# EAGLE library part ADS1220 (library LinnesLab-DigitalIC)
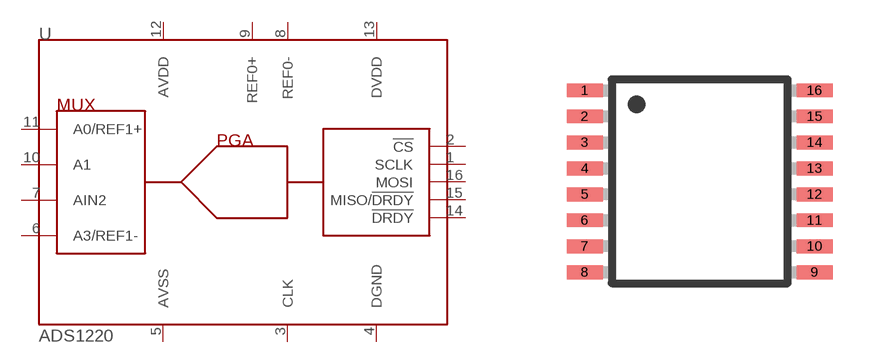
[diagram p13: symbol with the pads of TSSOP16; footprint TSSOP16]

Designator prefix U

## ADS1220  [TSSOP16]
1  SCLK
2  !CS
3  CLK
4  DGND  pwr
5  AVSS  pwr
6  A3/REF1-  in
7  AIN2  in
8  REF0-  in
9  REF0+  in
10  A1  in
11  A0/REF1+  in
12  AVDD  pwr
13  DVDD  pwr
14  !DRDY
15  MISO/!DRDY
16  MOSI

## Footprint TSSOP16 (pad centres in mm)
16-Lead Thin Shrink Small Outline Package [TSSOP] (RU-16) Source: 8x ADG1408_1409.pdf
smd 0.9 x 0.35: 1 -2.875,2.275; 2 -2.875,1.625; 3 -2.875,0.975; 4 -2.875,0.325; 5 -2.875,-0.325; 6 -2.875,-0.975; 7 -2.875,-1.625; 8 -2.875,-2.275; 9 2.875,-2.275; 10 2.875,-1.625; 11 2.875,-0.975; 12 2.875,-0.325; 13 2.875,0.325; 14 2.875,0.975; 15 2.875,1.625; 16 2.875,2.275